# Altium footprint library CQFP_Sq_50P_Side_M.PcbLib: 5 footprints
Each footprint in its own frame and in the unit in brackets; x right, y up, seen from the top. Pads: shape width x height; smd on the part's side, far side on the other; paste and mask are expansions set on the pad; w line width, h text height; cw(c..) or ccw(c..) is an arc to the next point about the centre after c.
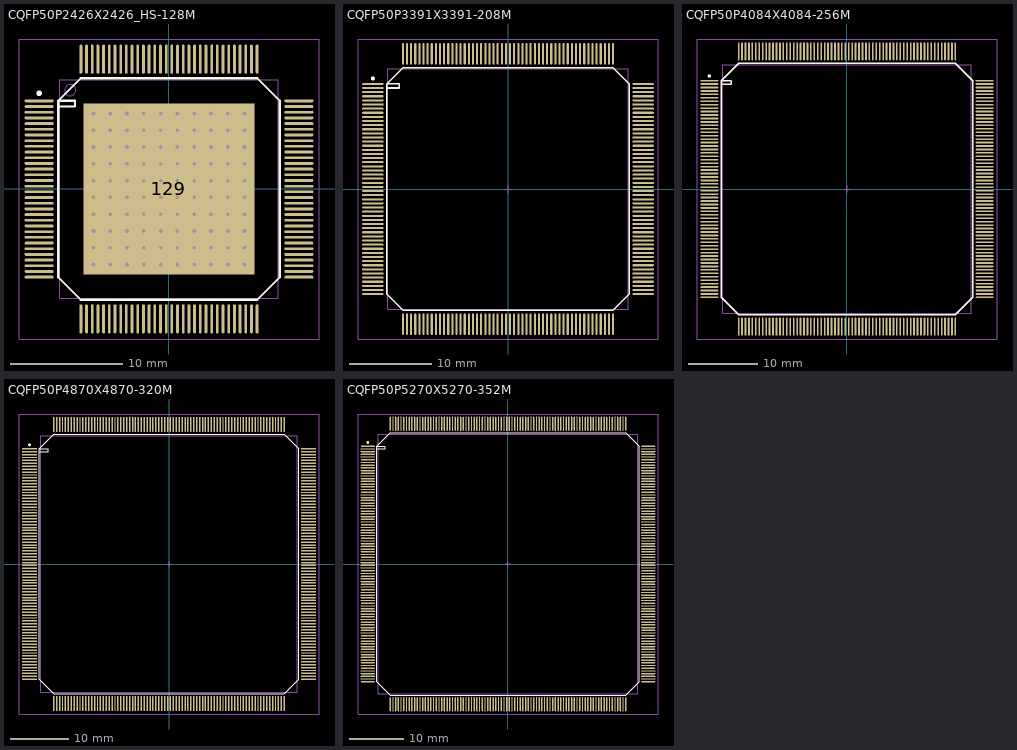
[diagram p0: the footprints below, top view; thin cyan lines are the x and y axes]

## CQFP50P2426X2426_HS-128M [mm] "CQFP, 128-Leads, Body 19.6x19.6mm; Pitch 0.508mm, Gullwing Leadform, IPC Low Density"
height 3.4
pads (129):
  oval 2.6x0.25 smd: 1(-11.6,7.874) 2(-11.6,7.366) 3(-11.6,6.858) 4(-11.6,6.35) 5(-11.6,5.842) 6(-11.6,5.334) 7(-11.6,4.826) 8(-11.6,4.318) 9(-11.6,3.81) 10(-11.6,3.302) 11(-11.6,2.794) 12(-11.6,2.286) 13(-11.6,1.778) 14(-11.6,1.27) 15(-11.6,0.762) 16(-11.6,0.254) 17(-11.6,-0.254) 18(-11.6,-0.762) 19(-11.6,-1.27) 20(-11.6,-1.778) 21(-11.6,-2.286) 22(-11.6,-2.794) 23(-11.6,-3.302) 24(-11.6,-3.81) 25(-11.6,-4.318) 26(-11.6,-4.826) 27(-11.6,-5.334) 28(-11.6,-5.842) 29(-11.6,-6.35) 30(-11.6,-6.858) 31(-11.6,-7.366) 32(-11.6,-7.874) 65(11.6,-7.874) 66(11.6,-7.366) 67(11.6,-6.858) 68(11.6,-6.35) 69(11.6,-5.842) 70(11.6,-5.334) 71(11.6,-4.826) 72(11.6,-4.318) 73(11.6,-3.81) 74(11.6,-3.302) 75(11.6,-2.794) 76(11.6,-2.286) 77(11.6,-1.778) 78(11.6,-1.27) 79(11.6,-0.762) 80(11.6,-0.254) 81(11.6,0.254) 82(11.6,0.762) 83(11.6,1.27) 84(11.6,1.778) 85(11.6,2.286) 86(11.6,2.794) 87(11.6,3.302) 88(11.6,3.81) 89(11.6,4.318) 90(11.6,4.826) 91(11.6,5.334) 92(11.6,5.842) 93(11.6,6.35) 94(11.6,6.858) 95(11.6,7.366) 96(11.6,7.874)
  oval 0.25x2.6 smd: 33(-7.874,-11.6) 34(-7.366,-11.6) 35(-6.858,-11.6) 36(-6.35,-11.6) 37(-5.842,-11.6) 38(-5.334,-11.6) 39(-4.826,-11.6) 40(-4.318,-11.6) 41(-3.81,-11.6) 42(-3.302,-11.6) 43(-2.794,-11.6) 44(-2.286,-11.6) 45(-1.778,-11.6) 46(-1.27,-11.6) 47(-0.762,-11.6) 48(-0.254,-11.6) 49(0.254,-11.6) 50(0.762,-11.6) 51(1.27,-11.6) 52(1.778,-11.6) 53(2.286,-11.6) 54(2.794,-11.6) 55(3.302,-11.6) 56(3.81,-11.6) 57(4.318,-11.6) 58(4.826,-11.6) 59(5.334,-11.6) 60(5.842,-11.6) 61(6.35,-11.6) 62(6.858,-11.6) 63(7.366,-11.6) 64(7.874,-11.6) 97(7.874,11.6) 98(7.366,11.6) 99(6.858,11.6) 100(6.35,11.6) 101(5.842,11.6) 102(5.334,11.6) 103(4.826,11.6) 104(4.318,11.6) 105(3.81,11.6) 106(3.302,11.6) 107(2.794,11.6) 108(2.286,11.6) 109(1.778,11.6) 110(1.27,11.6) 111(0.762,11.6) 112(0.254,11.6) 113(-0.254,11.6) 114(-0.762,11.6) 115(-1.27,11.6) 116(-1.778,11.6) 117(-2.286,11.6) 118(-2.794,11.6) 119(-3.302,11.6) 120(-3.81,11.6) 121(-4.318,11.6) 122(-4.826,11.6) 123(-5.334,11.6) 124(-5.842,11.6) 125(-6.35,11.6) 126(-6.858,11.6) 127(-7.366,11.6) 128(-7.874,11.6)
  rect 15.3x15.3 smd: 129(0,0)
via 6.75,2.25 diameter 0.43 hole 0.33
via 5.25,2.25 diameter 0.43 hole 0.33
via 6.75,3.75 diameter 0.43 hole 0.33
via 5.25,3.75 diameter 0.43 hole 0.33
via -6.75,3.75 diameter 0.43 hole 0.33
via -6.75,2.25 diameter 0.43 hole 0.33
via -5.25,2.25 diameter 0.43 hole 0.33
via -5.25,3.75 diameter 0.43 hole 0.33
via -6.75,-3.75 diameter 0.43 hole 0.33
via -5.25,-3.75 diameter 0.43 hole 0.33
via -6.75,-2.25 diameter 0.43 hole 0.33
via -5.25,-2.25 diameter 0.43 hole 0.33
via 6.75,-3.75 diameter 0.43 hole 0.33
via 5.25,-3.75 diameter 0.43 hole 0.33
via 6.75,-2.25 diameter 0.43 hole 0.33
via 5.25,-2.25 diameter 0.43 hole 0.33
via 6.75,-0.75 diameter 0.43 hole 0.33
via 6.75,0.75 diameter 0.43 hole 0.33
via 5.25,-0.75 diameter 0.43 hole 0.33
via 5.25,0.75 diameter 0.43 hole 0.33
via -5.25,0.75 diameter 0.43 hole 0.33
via -6.75,0.75 diameter 0.43 hole 0.33
via -6.75,-0.75 diameter 0.43 hole 0.33
via -5.25,-0.75 diameter 0.43 hole 0.33
via 3.75,3.75 diameter 0.43 hole 0.33
via 2.25,3.75 diameter 0.43 hole 0.33
via 0.75,3.75 diameter 0.43 hole 0.33
via -3.75,3.75 diameter 0.43 hole 0.33
via -2.25,3.75 diameter 0.43 hole 0.33
via -0.75,3.75 diameter 0.43 hole 0.33
via 3.75,2.25 diameter 0.43 hole 0.33
via 2.25,2.25 diameter 0.43 hole 0.33
via 0.75,2.25 diameter 0.43 hole 0.33
via -3.75,2.25 diameter 0.43 hole 0.33
via -2.25,2.25 diameter 0.43 hole 0.33
via -0.75,2.25 diameter 0.43 hole 0.33
via 3.75,0.75 diameter 0.43 hole 0.33
via 2.25,0.75 diameter 0.43 hole 0.33
via 0.75,0.75 diameter 0.43 hole 0.33
via -3.75,0.75 diameter 0.43 hole 0.33
via -2.25,0.75 diameter 0.43 hole 0.33
via -0.75,0.75 diameter 0.43 hole 0.33
via 3.75,-3.75 diameter 0.43 hole 0.33
via 2.25,-3.75 diameter 0.43 hole 0.33
via 0.75,-3.75 diameter 0.43 hole 0.33
via -3.75,-3.75 diameter 0.43 hole 0.33
via -2.25,-3.75 diameter 0.43 hole 0.33
via -0.75,-3.75 diameter 0.43 hole 0.33
via 3.75,-2.25 diameter 0.43 hole 0.33
via 2.25,-2.25 diameter 0.43 hole 0.33
via 0.75,-2.25 diameter 0.43 hole 0.33
via -3.75,-2.25 diameter 0.43 hole 0.33
via -2.25,-2.25 diameter 0.43 hole 0.33
via 3.75,-0.75 diameter 0.43 hole 0.33
via 2.25,-0.75 diameter 0.43 hole 0.33
via 0.75,-0.75 diameter 0.43 hole 0.33
via -3.75,-0.75 diameter 0.43 hole 0.33
via -2.25,-0.75 diameter 0.43 hole 0.33
via -0.75,-2.25 diameter 0.43 hole 0.33
via -0.75,-0.75 diameter 0.43 hole 0.33
via -0.75,5.25 diameter 0.43 hole 0.33
via -2.25,5.25 diameter 0.43 hole 0.33
via -3.75,5.25 diameter 0.43 hole 0.33
via 0.75,5.25 diameter 0.43 hole 0.33
via 2.25,5.25 diameter 0.43 hole 0.33
via 3.75,5.25 diameter 0.43 hole 0.33
via -5.25,5.25 diameter 0.43 hole 0.33
via -6.75,5.25 diameter 0.43 hole 0.33
via 5.25,5.25 diameter 0.43 hole 0.33
via 6.75,5.25 diameter 0.43 hole 0.33
via -0.75,6.75 diameter 0.43 hole 0.33
via -2.25,6.75 diameter 0.43 hole 0.33
via -3.75,6.75 diameter 0.43 hole 0.33
via 0.75,6.75 diameter 0.43 hole 0.33
via 2.25,6.75 diameter 0.43 hole 0.33
via 3.75,6.75 diameter 0.43 hole 0.33
via -5.25,6.75 diameter 0.43 hole 0.33
via -6.75,6.75 diameter 0.43 hole 0.33
via 5.25,6.75 diameter 0.43 hole 0.33
via 6.75,6.75 diameter 0.43 hole 0.33
via 0.75,-5.25 diameter 0.43 hole 0.33
via 2.25,-5.25 diameter 0.43 hole 0.33
via 3.75,-5.25 diameter 0.43 hole 0.33
via -0.75,-5.25 diameter 0.43 hole 0.33
via -2.25,-5.25 diameter 0.43 hole 0.33
via -3.75,-5.25 diameter 0.43 hole 0.33
via 5.25,-5.25 diameter 0.43 hole 0.33
via 6.75,-5.25 diameter 0.43 hole 0.33
via -5.25,-5.25 diameter 0.43 hole 0.33
via -6.75,-5.25 diameter 0.43 hole 0.33
via 0.75,-6.75 diameter 0.43 hole 0.33
via 2.25,-6.75 diameter 0.43 hole 0.33
via 3.75,-6.75 diameter 0.43 hole 0.33
via -0.75,-6.75 diameter 0.43 hole 0.33
via -2.25,-6.75 diameter 0.43 hole 0.33
via -3.75,-6.75 diameter 0.43 hole 0.33
via 5.25,-6.75 diameter 0.43 hole 0.33
via 6.75,-6.75 diameter 0.43 hole 0.33
via -5.25,-6.75 diameter 0.43 hole 0.33
via -6.75,-6.75 diameter 0.43 hole 0.33
Top Overlay:
  circle w0.25: c-11.6,8.549 r0.125
  lines w0.2: -9.9,7.375 -8.4,7.375 -8.4,7.875 -9.9,7.875 ; -9.9,7.875 -9.9,-7.875 -7.875,-9.9 7.875,-9.9 9.9,-7.875 9.9,7.875 7.875,9.9 -7.875,9.9 -9.9,7.875
Mechanical 13:
  circle w0.1: c-8.83,8.83 r0.5
  lines w0.1: -9.78,-9.78 -9.78,9.78 9.78,9.78 9.78,-9.78 -9.78,-9.78
Mechanical 15:
  lines w0.1: -13.4,-13.4 -13.4,13.4 13.4,13.4 13.4,-13.4 -13.4,-13.4 ; -0.5,0 0.5,0 -0.5,0 ; 0,-0.5 0,0.5 0,-0.5
3D body: height 3.4, standoff 0, extent -9.78,-9.78 9.78,9.78

## CQFP50P3391X3391-208M [mm] "CQFP, 208-Leads, Body 29x29mm; Pitch 0.5mm, Gullwing Leadform, IPC Low Density"
height 3.3
pads (208):
  oval 2.6x0.25 smd: 1(-16.4,12.75) 2(-16.4,12.25) 3(-16.4,11.75) 4(-16.4,11.25) 5(-16.4,10.75) 6(-16.4,10.25) 7(-16.4,9.75) 8(-16.4,9.25) 9(-16.4,8.75) 10(-16.4,8.25) 11(-16.4,7.75) 12(-16.4,7.25) 13(-16.4,6.75) 14(-16.4,6.25) 15(-16.4,5.75) 16(-16.4,5.25) 17(-16.4,4.75) 18(-16.4,4.25) 19(-16.4,3.75) 20(-16.4,3.25) 21(-16.4,2.75) 22(-16.4,2.25) 23(-16.4,1.75) 24(-16.4,1.25) 25(-16.4,0.75) 26(-16.4,0.25) 27(-16.4,-0.25) 28(-16.4,-0.75) 29(-16.4,-1.25) 30(-16.4,-1.75) 31(-16.4,-2.25) 32(-16.4,-2.75) 33(-16.4,-3.25) 34(-16.4,-3.75) 35(-16.4,-4.25) 36(-16.4,-4.75) 37(-16.4,-5.25) 38(-16.4,-5.75) 39(-16.4,-6.25) 40(-16.4,-6.75) 41(-16.4,-7.25) 42(-16.4,-7.75) 43(-16.4,-8.25) 44(-16.4,-8.75) 45(-16.4,-9.25) 46(-16.4,-9.75) 47(-16.4,-10.25) 48(-16.4,-10.75) 49(-16.4,-11.25) 50(-16.4,-11.75) 51(-16.4,-12.25) 52(-16.4,-12.75) 105(16.4,-12.75) 106(16.4,-12.25) 107(16.4,-11.75) 108(16.4,-11.25) 109(16.4,-10.75) 110(16.4,-10.25) 111(16.4,-9.75) 112(16.4,-9.25) 113(16.4,-8.75) 114(16.4,-8.25) 115(16.4,-7.75) 116(16.4,-7.25) 117(16.4,-6.75) 118(16.4,-6.25) 119(16.4,-5.75) 120(16.4,-5.25) 121(16.4,-4.75) 122(16.4,-4.25) 123(16.4,-3.75) 124(16.4,-3.25) 125(16.4,-2.75) 126(16.4,-2.25) 127(16.4,-1.75) 128(16.4,-1.25) 129(16.4,-0.75) 130(16.4,-0.25) 131(16.4,0.25) 132(16.4,0.75) 133(16.4,1.25) 134(16.4,1.75) 135(16.4,2.25) 136(16.4,2.75) 137(16.4,3.25) 138(16.4,3.75) 139(16.4,4.25) 140(16.4,4.75) 141(16.4,5.25) 142(16.4,5.75) 143(16.4,6.25) 144(16.4,6.75) 145(16.4,7.25) 146(16.4,7.75) 147(16.4,8.25) 148(16.4,8.75) 149(16.4,9.25) 150(16.4,9.75) 151(16.4,10.25) 152(16.4,10.75) 153(16.4,11.25) 154(16.4,11.75) 155(16.4,12.25) 156(16.4,12.75)
  oval 0.25x2.6 smd: 53(-12.75,-16.4) 54(-12.25,-16.4) 55(-11.75,-16.4) 56(-11.25,-16.4) 57(-10.75,-16.4) 58(-10.25,-16.4) 59(-9.75,-16.4) 60(-9.25,-16.4) 61(-8.75,-16.4) 62(-8.25,-16.4) 63(-7.75,-16.4) 64(-7.25,-16.4) 65(-6.75,-16.4) 66(-6.25,-16.4) 67(-5.75,-16.4) 68(-5.25,-16.4) 69(-4.75,-16.4) 70(-4.25,-16.4) 71(-3.75,-16.4) 72(-3.25,-16.4) 73(-2.75,-16.4) 74(-2.25,-16.4) 75(-1.75,-16.4) 76(-1.25,-16.4) 77(-0.75,-16.4) 78(-0.25,-16.4) 79(0.25,-16.4) 80(0.75,-16.4) 81(1.25,-16.4) 82(1.75,-16.4) 83(2.25,-16.4) 84(2.75,-16.4) 85(3.25,-16.4) 86(3.75,-16.4) 87(4.25,-16.4) 88(4.75,-16.4) 89(5.25,-16.4) 90(5.75,-16.4) 91(6.25,-16.4) 92(6.75,-16.4) 93(7.25,-16.4) 94(7.75,-16.4) 95(8.25,-16.4) 96(8.75,-16.4) 97(9.25,-16.4) 98(9.75,-16.4) 99(10.25,-16.4) 100(10.75,-16.4) 101(11.25,-16.4) 102(11.75,-16.4) 103(12.25,-16.4) 104(12.75,-16.4) 157(12.75,16.4) 158(12.25,16.4) 159(11.75,16.4) 160(11.25,16.4) 161(10.75,16.4) 162(10.25,16.4) 163(9.75,16.4) 164(9.25,16.4) 165(8.75,16.4) 166(8.25,16.4) 167(7.75,16.4) 168(7.25,16.4) 169(6.75,16.4) 170(6.25,16.4) 171(5.75,16.4) 172(5.25,16.4) 173(4.75,16.4) 174(4.25,16.4) 175(3.75,16.4) 176(3.25,16.4) 177(2.75,16.4) 178(2.25,16.4) 179(1.75,16.4) 180(1.25,16.4) 181(0.75,16.4) 182(0.25,16.4) 183(-0.25,16.4) 184(-0.75,16.4) 185(-1.25,16.4) 186(-1.75,16.4) 187(-2.25,16.4) 188(-2.75,16.4) 189(-3.25,16.4) 190(-3.75,16.4) 191(-4.25,16.4) 192(-4.75,16.4) 193(-5.25,16.4) 194(-5.75,16.4) 195(-6.25,16.4) 196(-6.75,16.4) 197(-7.25,16.4) 198(-7.75,16.4) 199(-8.25,16.4) 200(-8.75,16.4) 201(-9.25,16.4) 202(-9.75,16.4) 203(-10.25,16.4) 204(-10.75,16.4) 205(-11.25,16.4) 206(-11.75,16.4) 207(-12.25,16.4) 208(-12.75,16.4)
Top Overlay:
  circle w0.25: c-16.4,13.425 r0.125
  lines w0.2: -14.7,12.25 -13.2,12.25 -13.2,12.75 -14.7,12.75 ; -14.7,12.75 -14.7,-12.75 -12.75,-14.7 12.75,-14.7 14.7,-12.75 14.7,12.75 12.75,14.7 -12.75,14.7 -14.7,12.75
Mechanical 13:
  lines w0.1: -14.605,-14.605 -14.605,14.605 14.605,14.605 14.605,-14.605 -14.605,-14.605
Mechanical 15:
  lines w0.1: -0.5,0 0.5,0 ; 0,-0.5 0,0.5 ; -18.2,-18.2 -18.2,18.2 18.2,18.2 18.2,-18.2 -18.2,-18.2
3D body: height 3.3, standoff 0, extent -14.605,-14.605 14.605,14.605

## CQFP50P4084X4084-256M [mm] "CQFP, 256-Leads, Body 36x36mm; Pitch 0.5mm, Gullwing Leadform, IPC Low Density"
height 3.3
pads (256):
  oval 2.6x0.25 smd: 1(-20,15.75) 2(-20,15.25) 3(-20,14.75) 4(-20,14.25) 5(-20,13.75) 6(-20,13.25) 7(-20,12.75) 8(-20,12.25) 9(-20,11.75) 10(-20,11.25) 11(-20,10.75) 12(-20,10.25) 13(-20,9.75) 14(-20,9.25) 15(-20,8.75) 16(-20,8.25) 17(-20,7.75) 18(-20,7.25) 19(-20,6.75) 20(-20,6.25) 21(-20,5.75) 22(-20,5.25) 23(-20,4.75) 24(-20,4.25) 25(-20,3.75) 26(-20,3.25) 27(-20,2.75) 28(-20,2.25) 29(-20,1.75) 30(-20,1.25) 31(-20,0.75) 32(-20,0.25) 33(-20,-0.25) 34(-20,-0.75) 35(-20,-1.25) 36(-20,-1.75) 37(-20,-2.25) 38(-20,-2.75) 39(-20,-3.25) 40(-20,-3.75) 41(-20,-4.25) 42(-20,-4.75) 43(-20,-5.25) 44(-20,-5.75) 45(-20,-6.25) 46(-20,-6.75) 47(-20,-7.25) 48(-20,-7.75) 49(-20,-8.25) 50(-20,-8.75) 51(-20,-9.25) 52(-20,-9.75) 53(-20,-10.25) 54(-20,-10.75) 55(-20,-11.25) 56(-20,-11.75) 57(-20,-12.25) 58(-20,-12.75) 59(-20,-13.25) 60(-20,-13.75) 61(-20,-14.25) 62(-20,-14.75) 63(-20,-15.25) 64(-20,-15.75) 129(20,-15.75) 130(20,-15.25) 131(20,-14.75) 132(20,-14.25) 133(20,-13.75) 134(20,-13.25) 135(20,-12.75) 136(20,-12.25) 137(20,-11.75) 138(20,-11.25) 139(20,-10.75) 140(20,-10.25) 141(20,-9.75) 142(20,-9.25) 143(20,-8.75) 144(20,-8.25) 145(20,-7.75) 146(20,-7.25) 147(20,-6.75) 148(20,-6.25) 149(20,-5.75) 150(20,-5.25) 151(20,-4.75) 152(20,-4.25) 153(20,-3.75) 154(20,-3.25) 155(20,-2.75) 156(20,-2.25) 157(20,-1.75) 158(20,-1.25) 159(20,-0.75) 160(20,-0.25) 161(20,0.25) 162(20,0.75) 163(20,1.25) 164(20,1.75) 165(20,2.25) 166(20,2.75) 167(20,3.25) 168(20,3.75) 169(20,4.25) 170(20,4.75) 171(20,5.25) 172(20,5.75) 173(20,6.25) 174(20,6.75) 175(20,7.25) 176(20,7.75) 177(20,8.25) 178(20,8.75) 179(20,9.25) 180(20,9.75) 181(20,10.25) 182(20,10.75) 183(20,11.25) 184(20,11.75) 185(20,12.25) 186(20,12.75) 187(20,13.25) 188(20,13.75) 189(20,14.25) 190(20,14.75) 191(20,15.25) 192(20,15.75)
  oval 0.25x2.6 smd: 65(-15.75,-20) 66(-15.25,-20) 67(-14.75,-20) 68(-14.25,-20) 69(-13.75,-20) 70(-13.25,-20) 71(-12.75,-20) 72(-12.25,-20) 73(-11.75,-20) 74(-11.25,-20) 75(-10.75,-20) 76(-10.25,-20) 77(-9.75,-20) 78(-9.25,-20) 79(-8.75,-20) 80(-8.25,-20) 81(-7.75,-20) 82(-7.25,-20) 83(-6.75,-20) 84(-6.25,-20) 85(-5.75,-20) 86(-5.25,-20) 87(-4.75,-20) 88(-4.25,-20) 89(-3.75,-20) 90(-3.25,-20) 91(-2.75,-20) 92(-2.25,-20) 93(-1.75,-20) 94(-1.25,-20) 95(-0.75,-20) 96(-0.25,-20) 97(0.25,-20) 98(0.75,-20) 99(1.25,-20) 100(1.75,-20) 101(2.25,-20) 102(2.75,-20) 103(3.25,-20) 104(3.75,-20) 105(4.25,-20) 106(4.75,-20) 107(5.25,-20) 108(5.75,-20) 109(6.25,-20) 110(6.75,-20) 111(7.25,-20) 112(7.75,-20) 113(8.25,-20) 114(8.75,-20) 115(9.25,-20) 116(9.75,-20) 117(10.25,-20) 118(10.75,-20) 119(11.25,-20) 120(11.75,-20) 121(12.25,-20) 122(12.75,-20) 123(13.25,-20) 124(13.75,-20) 125(14.25,-20) 126(14.75,-20) 127(15.25,-20) 128(15.75,-20) 193(15.75,20) 194(15.25,20) 195(14.75,20) 196(14.25,20) 197(13.75,20) 198(13.25,20) 199(12.75,20) 200(12.25,20) 201(11.75,20) 202(11.25,20) 203(10.75,20) 204(10.25,20) 205(9.75,20) 206(9.25,20) 207(8.75,20) 208(8.25,20) 209(7.75,20) 210(7.25,20) 211(6.75,20) 212(6.25,20) 213(5.75,20) 214(5.25,20) 215(4.75,20) 216(4.25,20) 217(3.75,20) 218(3.25,20) 219(2.75,20) 220(2.25,20) 221(1.75,20) 222(1.25,20) 223(0.75,20) 224(0.25,20) 225(-0.25,20) 226(-0.75,20) 227(-1.25,20) 228(-1.75,20) 229(-2.25,20) 230(-2.75,20) 231(-3.25,20) 232(-3.75,20) 233(-4.25,20) 234(-4.75,20) 235(-5.25,20) 236(-5.75,20) 237(-6.25,20) 238(-6.75,20) 239(-7.25,20) 240(-7.75,20) 241(-8.25,20) 242(-8.75,20) 243(-9.25,20) 244(-9.75,20) 245(-10.25,20) 246(-10.75,20) 247(-11.25,20) 248(-11.75,20) 249(-12.25,20) 250(-12.75,20) 251(-13.25,20) 252(-13.75,20) 253(-14.25,20) 254(-14.75,20) 255(-15.25,20) 256(-15.75,20)
Top Overlay:
  circle w0.25: c-20,16.425 r0.125
  lines w0.2: -18.3,15.25 -16.8,15.25 -16.8,15.75 -18.3,15.75 ; -18.3,15.75 -15.75,18.3 15.75,18.3 18.3,15.75 18.3,-15.75 15.75,-18.3 -15.75,-18.3 -18.3,-15.75 -18.3,15.75
Mechanical 13:
  lines w0.1: -18.07,-18.07 18.07,-18.07 18.07,18.07 -18.07,18.07 -18.07,-18.07
Mechanical 15:
  lines w0.1: -0.5,0 0.5,0 ; 0,-0.5 0,0.5 ; -21.8,-21.8 21.8,-21.8 21.8,21.8 -21.8,21.8 -21.8,-21.8
3D body: height 3.3, standoff 0, extent -18.07,-18.07 18.07,18.07

## CQFP50P4870X4870-320M [mm] "QFP; 320 Leads; Body 44 x 44 mm; Pitch 0.5mm"
height 2.7
pads (320):
  oval 2.6x0.25 smd: 1(-23.9,19.75) 2(-23.9,19.25) 3(-23.9,18.75) 4(-23.9,18.25) 5(-23.9,17.75) 6(-23.9,17.25) 7(-23.9,16.75) 8(-23.9,16.25) 9(-23.9,15.75) 10(-23.9,15.25) 11(-23.9,14.75) 12(-23.9,14.25) 13(-23.9,13.75) 14(-23.9,13.25) 15(-23.9,12.75) 16(-23.9,12.25) 17(-23.9,11.75) 18(-23.9,11.25) 19(-23.9,10.75) 20(-23.9,10.25) 21(-23.9,9.75) 22(-23.9,9.25) 23(-23.9,8.75) 24(-23.9,8.25) 25(-23.9,7.75) 26(-23.9,7.25) 27(-23.9,6.75) 28(-23.9,6.25) 29(-23.9,5.75) 30(-23.9,5.25) 31(-23.9,4.75) 32(-23.9,4.25) 33(-23.9,3.75) 34(-23.9,3.25) 35(-23.9,2.75) 36(-23.9,2.25) 37(-23.9,1.75) 38(-23.9,1.25) 39(-23.9,0.75) 40(-23.9,0.25) 41(-23.9,-0.25) 42(-23.9,-0.75) 43(-23.9,-1.25) 44(-23.9,-1.75) 45(-23.9,-2.25) 46(-23.9,-2.75) 47(-23.9,-3.25) 48(-23.9,-3.75) 49(-23.9,-4.25) 50(-23.9,-4.75) 51(-23.9,-5.25) 52(-23.9,-5.75) 53(-23.9,-6.25) 54(-23.9,-6.75) 55(-23.9,-7.25) 56(-23.9,-7.75) 57(-23.9,-8.25) 58(-23.9,-8.75) 59(-23.9,-9.25) 60(-23.9,-9.75) 61(-23.9,-10.25) 62(-23.9,-10.75) 63(-23.9,-11.25) 64(-23.9,-11.75) 65(-23.9,-12.25) 66(-23.9,-12.75) 67(-23.9,-13.25) 68(-23.9,-13.75) 69(-23.9,-14.25) 70(-23.9,-14.75) 71(-23.9,-15.25) 72(-23.9,-15.75) 73(-23.9,-16.25) 74(-23.9,-16.75) 75(-23.9,-17.25) 76(-23.9,-17.75) 77(-23.9,-18.25) 78(-23.9,-18.75) 79(-23.9,-19.25) 80(-23.9,-19.75) 161(23.9,-19.75) 162(23.9,-19.25) 163(23.9,-18.75) 164(23.9,-18.25) 165(23.9,-17.75) 166(23.9,-17.25) 167(23.9,-16.75) 168(23.9,-16.25) 169(23.9,-15.75) 170(23.9,-15.25) 171(23.9,-14.75) 172(23.9,-14.25) 173(23.9,-13.75) 174(23.9,-13.25) 175(23.9,-12.75) 176(23.9,-12.25) 177(23.9,-11.75) 178(23.9,-11.25) 179(23.9,-10.75) 180(23.9,-10.25) 181(23.9,-9.75) 182(23.9,-9.25) 183(23.9,-8.75) 184(23.9,-8.25) 185(23.9,-7.75) 186(23.9,-7.25) 187(23.9,-6.75) 188(23.9,-6.25) 189(23.9,-5.75) 190(23.9,-5.25) 191(23.9,-4.75) 192(23.9,-4.25) 193(23.9,-3.75) 194(23.9,-3.25) 195(23.9,-2.75) 196(23.9,-2.25) 197(23.9,-1.75) 198(23.9,-1.25) 199(23.9,-0.75) 200(23.9,-0.25) 201(23.9,0.25) 202(23.9,0.75) 203(23.9,1.25) 204(23.9,1.75) 205(23.9,2.25) 206(23.9,2.75) 207(23.9,3.25) 208(23.9,3.75) 209(23.9,4.25) 210(23.9,4.75) 211(23.9,5.25) 212(23.9,5.75) 213(23.9,6.25) 214(23.9,6.75) 215(23.9,7.25) 216(23.9,7.75) 217(23.9,8.25) 218(23.9,8.75) 219(23.9,9.25) 220(23.9,9.75) 221(23.9,10.25) 222(23.9,10.75) 223(23.9,11.25) 224(23.9,11.75) 225(23.9,12.25) 226(23.9,12.75) 227(23.9,13.25) 228(23.9,13.75) 229(23.9,14.25) 230(23.9,14.75) 231(23.9,15.25) 232(23.9,15.75) 233(23.9,16.25) 234(23.9,16.75) 235(23.9,17.25) 236(23.9,17.75) 237(23.9,18.25) 238(23.9,18.75) 239(23.9,19.25) 240(23.9,19.75)
  oval 0.25x2.6 smd: 81(-19.75,-23.9) 82(-19.25,-23.9) 83(-18.75,-23.9) 84(-18.25,-23.9) 85(-17.75,-23.9) 86(-17.25,-23.9) 87(-16.75,-23.9) 88(-16.25,-23.9) 89(-15.75,-23.9) 90(-15.25,-23.9) 91(-14.75,-23.9) 92(-14.25,-23.9) 93(-13.75,-23.9) 94(-13.25,-23.9) 95(-12.75,-23.9) 96(-12.25,-23.9) 97(-11.75,-23.9) 98(-11.25,-23.9) 99(-10.75,-23.9) 100(-10.25,-23.9) 101(-9.75,-23.9) 102(-9.25,-23.9) 103(-8.75,-23.9) 104(-8.25,-23.9) 105(-7.75,-23.9) 106(-7.25,-23.9) 107(-6.75,-23.9) 108(-6.25,-23.9) 109(-5.75,-23.9) 110(-5.25,-23.9) 111(-4.75,-23.9) 112(-4.25,-23.9) 113(-3.75,-23.9) 114(-3.25,-23.9) 115(-2.75,-23.9) 116(-2.25,-23.9) 117(-1.75,-23.9) 118(-1.25,-23.9) 119(-0.75,-23.9) 120(-0.25,-23.9) 121(0.25,-23.9) 122(0.75,-23.9) 123(1.25,-23.9) 124(1.75,-23.9) 125(2.25,-23.9) 126(2.75,-23.9) 127(3.25,-23.9) 128(3.75,-23.9) 129(4.25,-23.9) 130(4.75,-23.9) 131(5.25,-23.9) 132(5.75,-23.9) 133(6.25,-23.9) 134(6.75,-23.9) 135(7.25,-23.9) 136(7.75,-23.9) 137(8.25,-23.9) 138(8.75,-23.9) 139(9.25,-23.9) 140(9.75,-23.9) 141(10.25,-23.9) 142(10.75,-23.9) 143(11.25,-23.9) 144(11.75,-23.9) 145(12.25,-23.9) 146(12.75,-23.9) 147(13.25,-23.9) 148(13.75,-23.9) 149(14.25,-23.9) 150(14.75,-23.9) 151(15.25,-23.9) 152(15.75,-23.9) 153(16.25,-23.9) 154(16.75,-23.9) 155(17.25,-23.9) 156(17.75,-23.9) 157(18.25,-23.9) 158(18.75,-23.9) 159(19.25,-23.9) 160(19.75,-23.9) 241(19.75,23.9) 242(19.25,23.9) 243(18.75,23.9) 244(18.25,23.9) 245(17.75,23.9) 246(17.25,23.9) 247(16.75,23.9) 248(16.25,23.9) 249(15.75,23.9) 250(15.25,23.9) 251(14.75,23.9) 252(14.25,23.9) 253(13.75,23.9) 254(13.25,23.9) 255(12.75,23.9) 256(12.25,23.9) 257(11.75,23.9) 258(11.25,23.9) 259(10.75,23.9) 260(10.25,23.9) 261(9.75,23.9) 262(9.25,23.9) 263(8.75,23.9) 264(8.25,23.9) 265(7.75,23.9) 266(7.25,23.9) 267(6.75,23.9) 268(6.25,23.9) 269(5.75,23.9) 270(5.25,23.9) 271(4.75,23.9) 272(4.25,23.9) 273(3.75,23.9) 274(3.25,23.9) 275(2.75,23.9) 276(2.25,23.9) 277(1.75,23.9) 278(1.25,23.9) 279(0.75,23.9) 280(0.25,23.9) 281(-0.25,23.9) 282(-0.75,23.9) 283(-1.25,23.9) 284(-1.75,23.9) 285(-2.25,23.9) 286(-2.75,23.9) 287(-3.25,23.9) 288(-3.75,23.9) 289(-4.25,23.9) 290(-4.75,23.9) 291(-5.25,23.9) 292(-5.75,23.9) 293(-6.25,23.9) 294(-6.75,23.9) 295(-7.25,23.9) 296(-7.75,23.9) 297(-8.25,23.9) 298(-8.75,23.9) 299(-9.25,23.9) 300(-9.75,23.9) 301(-10.25,23.9) 302(-10.75,23.9) 303(-11.25,23.9) 304(-11.75,23.9) 305(-12.25,23.9) 306(-12.75,23.9) 307(-13.25,23.9) 308(-13.75,23.9) 309(-14.25,23.9) 310(-14.75,23.9) 311(-15.25,23.9) 312(-15.75,23.9) 313(-16.25,23.9) 314(-16.75,23.9) 315(-17.25,23.9) 316(-17.75,23.9) 317(-18.25,23.9) 318(-18.75,23.9) 319(-19.25,23.9) 320(-19.75,23.9)
Top Overlay:
  circle w0.25: c-23.9,20.425 r0.125
  lines w0.2: -22.2,19.25 -20.7,19.25 -20.7,19.75 -22.2,19.75 ; -22.2,19.75 -19.75,22.2 19.75,22.2 22.2,19.75 22.2,-19.75 19.75,-22.2 -19.75,-22.2 -22.2,-19.75 -22.2,19.75
Mechanical 13:
  lines w0.1: -22,-22 22,-22 22,22 -22,22 -22,-22
Mechanical 15:
  lines w0.1: -0.5,0 0.5,0 ; 0,-0.5 0,0.5 ; -25.7,-25.7 25.7,-25.7 25.7,25.7 -25.7,25.7 -25.7,-25.7
3D body: height 2.7, standoff 0, extent -22,-22 22,22

## CQFP50P5270X5270-352M [mm] "CQFP, 352-Leads, Body 48x48mm; Pitch 0.5mm, Gullwing Leadform, IPC Low Density"
height 2.9
pads (352):
  oval 2.6x0.25 smd: 1(-25.9,21.75) 2(-25.9,21.25) 3(-25.9,20.75) 4(-25.9,20.25) 5(-25.9,19.75) 6(-25.9,19.25) 7(-25.9,18.75) 8(-25.9,18.25) 9(-25.9,17.75) 10(-25.9,17.25) 11(-25.9,16.75) 12(-25.9,16.25) 13(-25.9,15.75) 14(-25.9,15.25) 15(-25.9,14.75) 16(-25.9,14.25) 17(-25.9,13.75) 18(-25.9,13.25) 19(-25.9,12.75) 20(-25.9,12.25) 21(-25.9,11.75) 22(-25.9,11.25) 23(-25.9,10.75) 24(-25.9,10.25) 25(-25.9,9.75) 26(-25.9,9.25) 27(-25.9,8.75) 28(-25.9,8.25) 29(-25.9,7.75) 30(-25.9,7.25) 31(-25.9,6.75) 32(-25.9,6.25) 33(-25.9,5.75) 34(-25.9,5.25) 35(-25.9,4.75) 36(-25.9,4.25) 37(-25.9,3.75) 38(-25.9,3.25) 39(-25.9,2.75) 40(-25.9,2.25) 41(-25.9,1.75) 42(-25.9,1.25) 43(-25.9,0.75) 44(-25.9,0.25) 45(-25.9,-0.25) 46(-25.9,-0.75) 47(-25.9,-1.25) 48(-25.9,-1.75) 49(-25.9,-2.25) 50(-25.9,-2.75) 51(-25.9,-3.25) 52(-25.9,-3.75) 53(-25.9,-4.25) 54(-25.9,-4.75) 55(-25.9,-5.25) 56(-25.9,-5.75) 57(-25.9,-6.25) 58(-25.9,-6.75) 59(-25.9,-7.25) 60(-25.9,-7.75) 61(-25.9,-8.25) 62(-25.9,-8.75) 63(-25.9,-9.25) 64(-25.9,-9.75) 65(-25.9,-10.25) 66(-25.9,-10.75) 67(-25.9,-11.25) 68(-25.9,-11.75) 69(-25.9,-12.25) 70(-25.9,-12.75) 71(-25.9,-13.25) 72(-25.9,-13.75) 73(-25.9,-14.25) 74(-25.9,-14.75) 75(-25.9,-15.25) 76(-25.9,-15.75) 77(-25.9,-16.25) 78(-25.9,-16.75) 79(-25.9,-17.25) 80(-25.9,-17.75) 81(-25.9,-18.25) 82(-25.9,-18.75) 83(-25.9,-19.25) 84(-25.9,-19.75) 85(-25.9,-20.25) 86(-25.9,-20.75) 87(-25.9,-21.25) 88(-25.9,-21.75) 177(25.9,-21.75) 178(25.9,-21.25) 179(25.9,-20.75) 180(25.9,-20.25) 181(25.9,-19.75) 182(25.9,-19.25) 183(25.9,-18.75) 184(25.9,-18.25) 185(25.9,-17.75) 186(25.9,-17.25) 187(25.9,-16.75) 188(25.9,-16.25) 189(25.9,-15.75) 190(25.9,-15.25) 191(25.9,-14.75) 192(25.9,-14.25) 193(25.9,-13.75) 194(25.9,-13.25) 195(25.9,-12.75) 196(25.9,-12.25) 197(25.9,-11.75) 198(25.9,-11.25) 199(25.9,-10.75) 200(25.9,-10.25) 201(25.9,-9.75) 202(25.9,-9.25) 203(25.9,-8.75) 204(25.9,-8.25) 205(25.9,-7.75) 206(25.9,-7.25) 207(25.9,-6.75) 208(25.9,-6.25) 209(25.9,-5.75) 210(25.9,-5.25) 211(25.9,-4.75) 212(25.9,-4.25) 213(25.9,-3.75) 214(25.9,-3.25) 215(25.9,-2.75) 216(25.9,-2.25) 217(25.9,-1.75) 218(25.9,-1.25) 219(25.9,-0.75) 220(25.9,-0.25) 221(25.9,0.25) 222(25.9,0.75) 223(25.9,1.25) 224(25.9,1.75) 225(25.9,2.25) 226(25.9,2.75) 227(25.9,3.25) 228(25.9,3.75) 229(25.9,4.25) 230(25.9,4.75) 231(25.9,5.25) 232(25.9,5.75) 233(25.9,6.25) 234(25.9,6.75) 235(25.9,7.25) 236(25.9,7.75) 237(25.9,8.25) 238(25.9,8.75) 239(25.9,9.25) 240(25.9,9.75) 241(25.9,10.25) 242(25.9,10.75) 243(25.9,11.25) 244(25.9,11.75) 245(25.9,12.25) 246(25.9,12.75) 247(25.9,13.25) 248(25.9,13.75) 249(25.9,14.25) 250(25.9,14.75) 251(25.9,15.25) 252(25.9,15.75) 253(25.9,16.25) 254(25.9,16.75) 255(25.9,17.25) 256(25.9,17.75) 257(25.9,18.25) 258(25.9,18.75) 259(25.9,19.25) 260(25.9,19.75) 261(25.9,20.25) 262(25.9,20.75) 263(25.9,21.25) 264(25.9,21.75)
  oval 0.25x2.6 smd: 89(-21.75,-25.9) 90(-21.25,-25.9) 91(-20.75,-25.9) 92(-20.25,-25.9) 93(-19.75,-25.9) 94(-19.25,-25.9) 95(-18.75,-25.9) 96(-18.25,-25.9) 97(-17.75,-25.9) 98(-17.25,-25.9) 99(-16.75,-25.9) 100(-16.25,-25.9) 101(-15.75,-25.9) 102(-15.25,-25.9) 103(-14.75,-25.9) 104(-14.25,-25.9) 105(-13.75,-25.9) 106(-13.25,-25.9) 107(-12.75,-25.9) 108(-12.25,-25.9) 109(-11.75,-25.9) 110(-11.25,-25.9) 111(-10.75,-25.9) 112(-10.25,-25.9) 113(-9.75,-25.9) 114(-9.25,-25.9) 115(-8.75,-25.9) 116(-8.25,-25.9) 117(-7.75,-25.9) 118(-7.25,-25.9) 119(-6.75,-25.9) 120(-6.25,-25.9) 121(-5.75,-25.9) 122(-5.25,-25.9) 123(-4.75,-25.9) 124(-4.25,-25.9) 125(-3.75,-25.9) 126(-3.25,-25.9) 127(-2.75,-25.9) 128(-2.25,-25.9) 129(-1.75,-25.9) 130(-1.25,-25.9) 131(-0.75,-25.9) 132(-0.25,-25.9) 133(0.25,-25.9) 134(0.75,-25.9) 135(1.25,-25.9) 136(1.75,-25.9) 137(2.25,-25.9) 138(2.75,-25.9) 139(3.25,-25.9) 140(3.75,-25.9) 141(4.25,-25.9) 142(4.75,-25.9) 143(5.25,-25.9) 144(5.75,-25.9) 145(6.25,-25.9) 146(6.75,-25.9) 147(7.25,-25.9) 148(7.75,-25.9) 149(8.25,-25.9) 150(8.75,-25.9) 151(9.25,-25.9) 152(9.75,-25.9) 153(10.25,-25.9) 154(10.75,-25.9) 155(11.25,-25.9) 156(11.75,-25.9) 157(12.25,-25.9) 158(12.75,-25.9) 159(13.25,-25.9) 160(13.75,-25.9) 161(14.25,-25.9) 162(14.75,-25.9) 163(15.25,-25.9) 164(15.75,-25.9) 165(16.25,-25.9) 166(16.75,-25.9) 167(17.25,-25.9) 168(17.75,-25.9) 169(18.25,-25.9) 170(18.75,-25.9) 171(19.25,-25.9) 172(19.75,-25.9) 173(20.25,-25.9) 174(20.75,-25.9) 175(21.25,-25.9) 176(21.75,-25.9) 265(21.75,25.9) 266(21.25,25.9) 267(20.75,25.9) 268(20.25,25.9) 269(19.75,25.9) 270(19.25,25.9) 271(18.75,25.9) 272(18.25,25.9) 273(17.75,25.9) 274(17.25,25.9) 275(16.75,25.9) 276(16.25,25.9) 277(15.75,25.9) 278(15.25,25.9) 279(14.75,25.9) 280(14.25,25.9) 281(13.75,25.9) 282(13.25,25.9) 283(12.75,25.9) 284(12.25,25.9) 285(11.75,25.9) 286(11.25,25.9) 287(10.75,25.9) 288(10.25,25.9) 289(9.75,25.9) 290(9.25,25.9) 291(8.75,25.9) 292(8.25,25.9) 293(7.75,25.9) 294(7.25,25.9) 295(6.75,25.9) 296(6.25,25.9) 297(5.75,25.9) 298(5.25,25.9) 299(4.75,25.9) 300(4.25,25.9) 301(3.75,25.9) 302(3.25,25.9) 303(2.75,25.9) 304(2.25,25.9) 305(1.75,25.9) 306(1.25,25.9) 307(0.75,25.9) 308(0.25,25.9) 309(-0.25,25.9) 310(-0.75,25.9) 311(-1.25,25.9) 312(-1.75,25.9) 313(-2.25,25.9) 314(-2.75,25.9) 315(-3.25,25.9) 316(-3.75,25.9) 317(-4.25,25.9) 318(-4.75,25.9) 319(-5.25,25.9) 320(-5.75,25.9) 321(-6.25,25.9) 322(-6.75,25.9) 323(-7.25,25.9) 324(-7.75,25.9) 325(-8.25,25.9) 326(-8.75,25.9) 327(-9.25,25.9) 328(-9.75,25.9) 329(-10.25,25.9) 330(-10.75,25.9) 331(-11.25,25.9) 332(-11.75,25.9) 333(-12.25,25.9) 334(-12.75,25.9) 335(-13.25,25.9) 336(-13.75,25.9) 337(-14.25,25.9) 338(-14.75,25.9) 339(-15.25,25.9) 340(-15.75,25.9) 341(-16.25,25.9) 342(-16.75,25.9) 343(-17.25,25.9) 344(-17.75,25.9) 345(-18.25,25.9) 346(-18.75,25.9) 347(-19.25,25.9) 348(-19.75,25.9) 349(-20.25,25.9) 350(-20.75,25.9) 351(-21.25,25.9) 352(-21.75,25.9)
Top Overlay:
  circle w0.25: c-25.9,22.425 r0.125
  lines w0.2: -24.2,21.25 -22.7,21.25 -22.7,21.75 -24.2,21.75 ; -24.2,21.75 -24.2,-21.75 -21.75,-24.2 21.75,-24.2 24.2,-21.75 24.2,21.75 21.75,24.2 -21.75,24.2 -24.2,21.75
Mechanical 13:
  lines w0.1: -24,-24 -24,24 24,24 24,-24 -24,-24
Mechanical 15:
  lines w0.1: -0.5,0 0.5,0 ; 0,-0.5 0,0.5 ; -27.7,-27.7 -27.7,27.7 27.7,27.7 27.7,-27.7 -27.7,-27.7
3D body: height 2.9, standoff 0, extent -24,-24 24,24